# Altium footprint library TPS54331DDAR.PcbLib: 1 footprints
Each footprint in its own frame and in the unit in brackets; x right, y up, seen from the top. Pads: shape width x height; smd on the part's side, far side on the other; paste and mask are expansions set on the pad; w line width, h text height; cw(c..) or ccw(c..) is an arc to the next point about the centre after c.
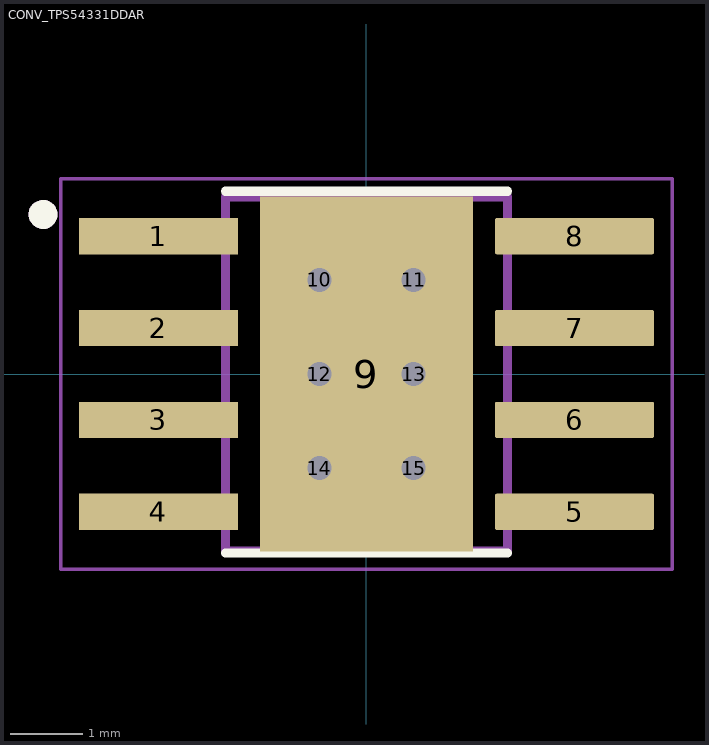
[diagram p0: the footprint, top view; thin cyan lines are the x and y axes]

## CONV_TPS54331DDAR [mm]
pads (15):
  rect 2.2x0.5 smd paste-2 mask+0: 1(-2.875,1.905) 2(-2.875,0.635) 3(-2.875,-0.635) 4(-2.875,-1.905)
  rrect10% 2.2x0.5 smd paste-2 mask+0: 5(2.875,-1.905) 6(2.875,-0.635) 7(2.875,0.635) 8(2.875,1.905)
  rect 2.95x4.9 smd paste-3 mask+0: 9(0,0)
  round 0.43 hole 0.33 mask+0: 10(-0.65,1.3) 11(0.65,1.3) 12(-0.65,0) 13(0.65,0) 14(-0.65,-1.3) 15(0.65,-1.3)
Top Overlay:
  circle w0.2: c-4.47,2.205 r0.1
  lines w0.127: -1.95,-2.475 1.95,-2.475 ; -1.95,2.525 1.95,2.525
Mechanical 13:
  circle w0.2: c-4.47,2.205 r0.1
  lines w0.127: -1.95,-2.45 1.95,-2.45 1.95,2.45 -1.95,2.45 -1.95,-2.45
Mechanical 15:
  lines w0.05: -4.225,-2.7 4.225,-2.7 4.225,2.7 -4.225,2.7 -4.225,-2.7
3D body "step_temp.STEP": height 1.7, standoff 0, extent -3,-2.45 3,2.45